# Altium footprint library PCB - CONNECTOR - SAMTEC IPL1-103-01-L-D-RA-K.PCBLIB: 1 footprints
Each footprint in its own frame and in the unit in brackets; x right, y up, seen from the top. Pads: shape width x height; smd on the part's side, far side on the other; paste and mask are expansions set on the pad; w line width, h text height; cw(c..) or ccw(c..) is an arc to the next point about the centre after c.
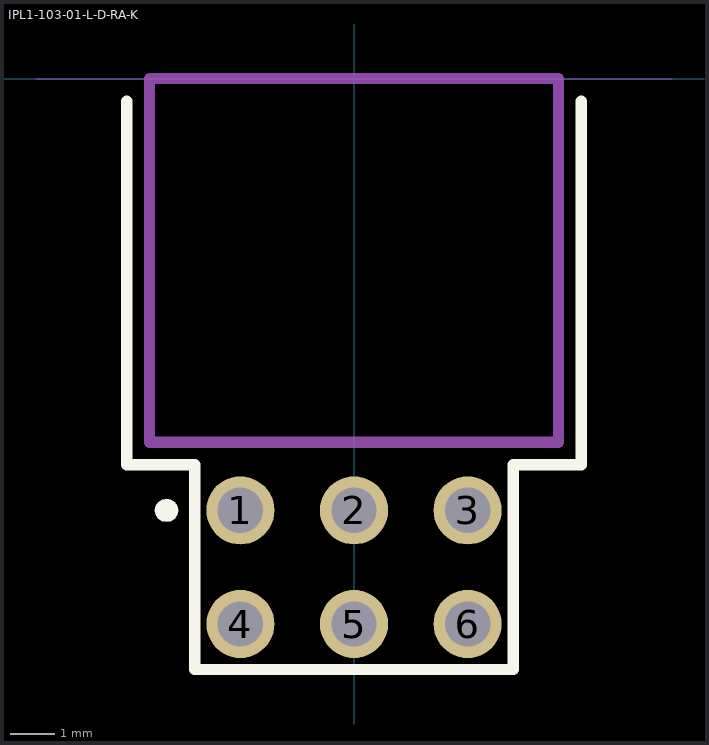
[diagram p0: the footprint, top view; thin cyan lines are the x and y axes]

## IPL1-103-01-L-D-RA-K [mil]
pads (6):
  round 60 hole 40 mask+3: 1(-100,-380) 2(0,-380) 3(100,-380) 4(-100,-480) 5(0,-480) 6(100,-480)
Top Overlay:
  region: -154.8,-380 -155.58,-376.1 -157.79,-372.79 -161.1,-370.58 -165,-369.8 -168.9,-370.58 -172.21,-372.79 -174.42,-376.1 -175.2,-380 -174.42,-383.9 -172.21,-387.21 -168.9,-389.42 -165,-390.2 -161.1,-389.42 -157.79,-387.21 -155.58,-383.9
  lines w10: -200,-20 -200,-340 -140,-340 -140,-520 140,-520 140,-340 200,-340 200,-20
M5 Assembly Top:
  lines w10: -180,-320 180,-320 180,0 -180,0 -180,-320
  text ".Designator" at -106.3,-263.78 h60
Mechanical 16:
  lines w0.1: -280,0 280,0
3D body "IPL1-103-01-L-D-RA-K.stp": height 310, standoff -85, extent -179.99,-492.49 180.01,0.01